# EAGLE library part HCTL-2016 (library hp-motion)
Quadrature Decoder/Counter
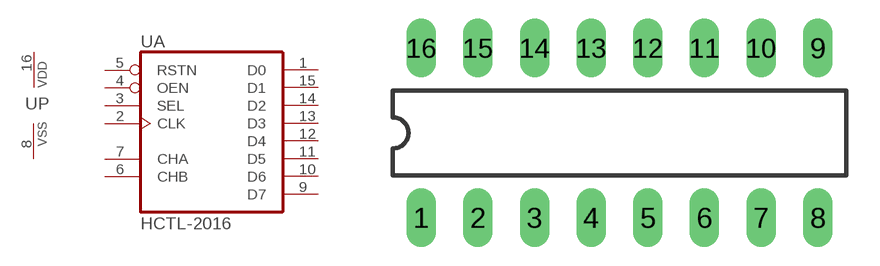
[diagram p1: symbol with the pads of DIL16; footprint DIL16]

Designator prefix U; gates P=PWRN A=HCTL-2016

## HCTL-2016  [DIL16]
1  A:D0  out
2  A:CLK  in
3  A:SEL  in
4  A:OEN  in
5  A:RSTN  in
6  A:CHB  in
7  A:CHA  in
8  P:VSS  pwr
9  A:D7  out
10  A:D6  out
11  A:D5  out
12  A:D4  out
13  A:D3  out
14  A:D2  out
15  A:D1  out
16  P:VDD  pwr

## Footprint DIL16 (pad centres in mm)
Dual In Line Package
drill 0.813 long: 1 -8.89,-3.81; 2 -6.35,-3.81; 3 -3.81,-3.81; 4 -1.27,-3.81; 5 1.27,-3.81; 6 3.81,-3.81; 7 6.35,-3.81; 8 8.89,-3.81; 9 8.89,3.81; 10 6.35,3.81; 11 3.81,3.81; 12 1.27,3.81; 13 -1.27,3.81; 14 -3.81,3.81; 15 -6.35,3.81; 16 -8.89,3.81